# Altium footprint library Wei_PcbLib1.PcbLib: 49 footprints (part 2 of 4)
Each footprint in its own frame and in the unit in brackets; x right, y up, seen from the top. Pads: shape width x height; smd on the part's side, far side on the other; paste and mask are expansions set on the pad; w line width, h text height; cw(c..) or ccw(c..) is an arc to the next point about the centre after c.
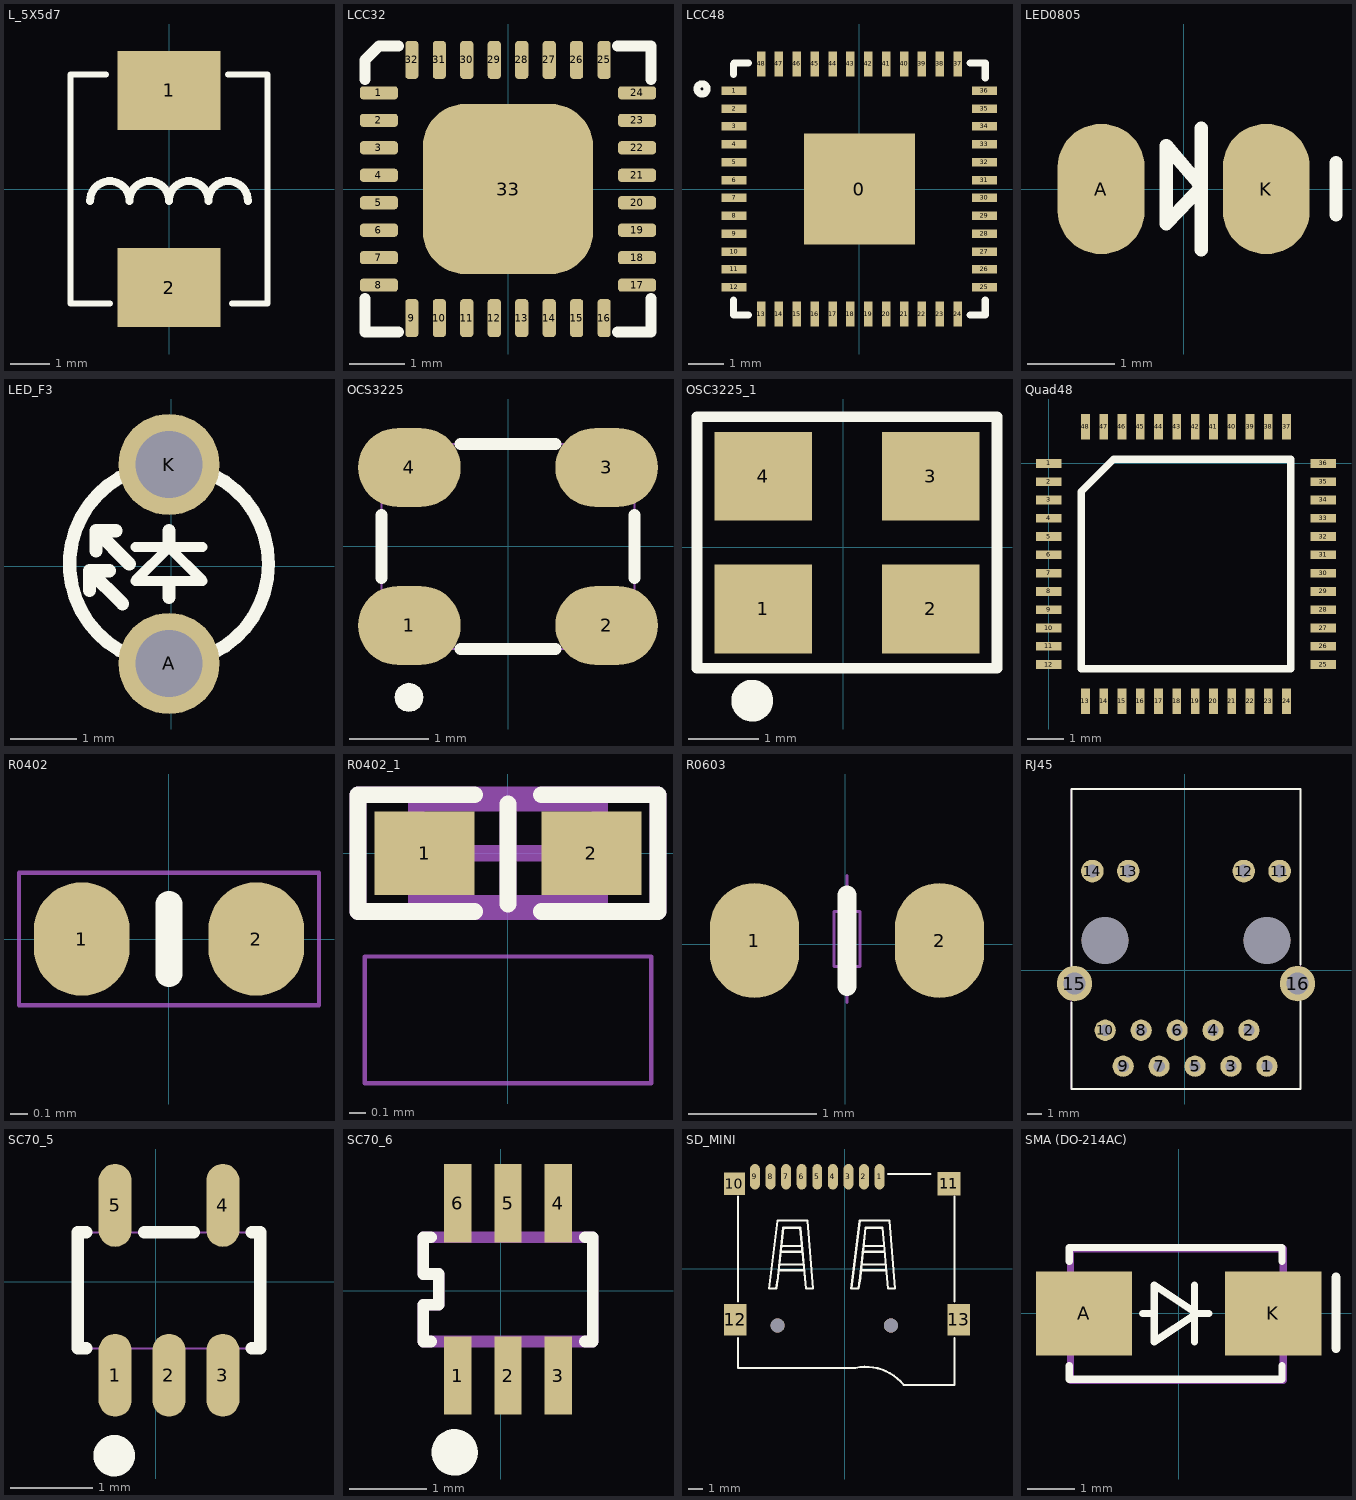
[diagram p1: the footprints below, top view; thin cyan lines are the x and y axes]

## L_5X5d7 [mm]
pads (2):
  rect 2.6x2 smd: 1(0,2.5) 2(0,-2.5)
Top Overlay:
  lines w0.152: -1.6,2.9 -2.5,2.9 -2.5,-2.9 -1.5,-2.9 ; 1.5,2.9 2.5,2.9 2.5,-2.9 1.6,-2.9
  lines w0.2: -2,-0.3 cw(c-1.5,-0.3) -1,-0.3 cw(c-0.5,-0.3) 0,-0.3 cw(c0.5,-0.3) 1,-0.3 cw(c1.5,-0.3) 2,-0.3

## LCC32 [mm]
pads (33):
  rrect50% 0.69x0.24 smd mask+0.05: 1(-2.35,1.75) 2(-2.35,1.25) 3(-2.35,0.75) 4(-2.35,0.25) 5(-2.35,-0.25) 6(-2.35,-0.75) 7(-2.35,-1.25) 8(-2.35,-1.75) 17(2.35,-1.75) 18(2.35,-1.25) 19(2.35,-0.75) 20(2.35,-0.25) 21(2.35,0.25) 22(2.35,0.75) 23(2.35,1.25) 24(2.35,1.75)
  rrect50% 0.24x0.69 smd mask+0.05: 9(-1.75,-2.35) 10(-1.25,-2.35) 11(-0.75,-2.35) 12(-0.25,-2.35) 13(0.25,-2.35) 14(0.75,-2.35) 15(1.25,-2.35) 16(1.75,-2.35) 25(1.75,2.35) 26(1.25,2.35) 27(0.75,2.35) 28(0.25,2.35) 29(-0.25,2.35) 30(-0.75,2.35) 31(-1.25,2.35) 32(-1.75,2.35)
  rrect50% 3.1x3.1 smd: 33(0,0)
Top Overlay:
  lines w0.2: -2.6,-1.99 -2.6,-2.6 -1.99,-2.6 ; -2.6,1.99 -2.6,2.35 -2.35,2.6 -1.99,2.6 ; 1.99,-2.6 2.6,-2.6 2.6,-1.99 ; 1.99,2.6 2.6,2.6 2.6,1.99

## LCC48 [mm]
pads (49):
  rect 3.1x3.1 smd: 0(0,0)
  rect 0.7x0.24 smd mask+0.05: 1(-3.5,2.75) 2(-3.5,2.25) 3(-3.5,1.75) 4(-3.5,1.25) 5(-3.5,0.75) 6(-3.5,0.25) 7(-3.5,-0.25) 8(-3.5,-0.75) 9(-3.5,-1.25) 10(-3.5,-1.75) 11(-3.5,-2.25) 12(-3.5,-2.75) 25(3.5,-2.75) 26(3.5,-2.25) 27(3.5,-1.75) 28(3.5,-1.25) 29(3.5,-0.75) 30(3.5,-0.25) 31(3.5,0.25) 32(3.5,0.75) 33(3.5,1.25) 34(3.5,1.75) 35(3.5,2.25) 36(3.5,2.75)
  rect 0.24x0.7 smd mask+0.05: 13(-2.75,-3.5) 14(-2.25,-3.5) 15(-1.75,-3.5) 16(-1.25,-3.5) 17(-0.75,-3.5) 18(-0.25,-3.5) 19(0.25,-3.5) 20(0.75,-3.5) 21(1.25,-3.5) 22(1.75,-3.5) 23(2.25,-3.5) 24(2.75,-3.5) 37(2.75,3.5) 38(2.25,3.5) 39(1.75,3.5) 40(1.25,3.5) 41(0.75,3.5) 42(0.25,3.5) 43(-0.25,3.5) 44(-0.75,3.5) 45(-1.25,3.5) 46(-1.75,3.5) 47(-2.25,3.5) 48(-2.75,3.5)
Top Overlay:
  circle w0.2: c-4.4,2.8 r0.141
  lines w0.2: -3.52,-3.1 -3.52,-3.52 -3.1,-3.52 ; -3.52,3.2 -3.52,3.5 -3.5,3.52 -3.1,3.52 ; 3.1,-3.52 3.52,-3.52 3.52,-3.1 ; 3.1,3.52 3.52,3.52 3.52,3.1

## LED0805 [mm]
pads (2):
  oval 1x1.5 smd: A(-0.949,0) K(0.949,0)
Top Overlay:
  lines w0.152: 0.2,-0.7 0.2,0.7 ; 1.751,-0.297 1.751,0.301 ; -0.2,-0.4 -0.2,0.5 0.203,0.025 -0.2,-0.4

## LED_F3 [mil]
pads (2):
  round 60 hole 40: A(-1.22,-57.72) K(-1.22,60.39)
Top Overlay:
  circle w7.87: c-1.22,1.34 r59.06
  lines w6: -21.22,11.34 18.78,11.34 ; -21.22,-8.66 18.78,-8.66 -1.22,11.34 -21.22,-8.66
  lines w7.87: -48.46,-14.41 -48.46,-2.6 ; -44.53,9.21 -44.53,21.02 ; -36.65,-2.6 -48.46,-2.6 ; -32.72,21.02 -44.53,21.02 ; -28.78,-22.28 -48.46,-2.6 ; -24.84,1.34 -44.53,21.02 ; -1.22,-18.35 -1.22,-10.47 ; -1.22,11.34 -1.22,21.02

## OCS3225 [mm]
pads (4):
  oval 1.3x1 smd: 1(-1.25,-1) 2(1.25,-1) 3(1.25,1) 4(-1.25,1)
Top Overlay:
  region: -1.071,-1.912 -1.085,-1.842 -1.125,-1.782 -1.184,-1.743 -1.254,-1.729 -1.324,-1.743 -1.344,-1.756 -1.384,-1.782 -1.423,-1.842 -1.437,-1.912 -1.423,-1.982 -1.384,-2.041 -1.344,-2.068 -1.324,-2.081 -1.254,-2.095 -1.184,-2.081 -1.125,-2.041 -1.085,-1.982
  lines w0.152: -1.6,-0.4 -1.6,0.4 ; -0.6,-1.3 0.6,-1.3 ; -0.6,1.3 0.6,1.3 ; 1.6,-0.4 1.6,0.4
Mechanical 8:
  lines w0.025: -0.2,1.3 1.6,1.3 1.6,-1.3 -1.6,-1.3 -1.6,1.3 -0.1,1.3

## OSC3225_1 [mil]
pads (4):
  rect 55x50 smd: 1(-44.96,-34.88) 2(49.44,-34.88) 3(49.44,39.92) 4(-44.96,39.92)
Top Overlay:
  circle w11.8: c-51.18,-86.61 r5.88
  lines w6: -82.35,73.42 -82.35,-68.38 86.84,-68.38 86.84,73.42 -80.46,73.42

## Quad48 [mm]
pads (48):
  rect 0.7x0.24 smd: 1(0,0) 2(0,-0.5) 3(0,-1) 4(0,-1.5) 5(0,-2) 6(0,-2.5) 7(0,-3) 8(0,-3.5) 9(0,-4) 10(0,-4.5) 11(0,-5) 12(0,-5.5) 25(7.5,-5.5) 26(7.5,-5) 27(7.5,-4.5) 28(7.5,-4) 29(7.5,-3.5) 30(7.5,-3) 31(7.5,-2.5) 32(7.5,-2) 33(7.5,-1.5) 34(7.5,-1) 35(7.5,-0.5) 36(7.5,0)
  rect 0.24x0.7 smd: 13(1,-6.5) 14(1.5,-6.5) 15(2,-6.5) 16(2.5,-6.5) 17(3,-6.5) 18(3.5,-6.5) 19(4,-6.5) 20(4.5,-6.5) 21(5,-6.5) 22(5.5,-6.5) 23(6,-6.5) 24(6.5,-6.5) 37(6.5,1) 38(6,1) 39(5.5,1) 40(5,1) 41(4.5,1) 42(4,1) 43(3.5,1) 44(3,1) 45(2.5,1) 46(2,1) 47(1.5,1) 48(1,1)
Top Overlay:
  lines w0.2: 0.885,-5.615 0.885,-0.77 1.77,0.115 6.615,0.115 6.615,-5.615 0.885,-5.615

## R0402 [mm]
pads (2):
  oval 0.55x0.65 smd: 1(-0.5,0) 2(0.5,0)
Top Overlay:
  lines w0.152: 0,-0.2 0,0.2
Mechanical 8:
  lines w0.025: -0.86,-0.38 -0.86,0.38 0.86,0.38 0.86,-0.38 -0.86,-0.38

## R0402_1 [mm] "Chip Capacitor, Body 1.0x0.5mm, IPC High Density"
height 1.3
pads (2):
  rect 0.6x0.5 smd mask+0.05: 1(-0.5,0) 2(0.5,0)
Top Overlay:
  lines w0.1: -0.2,-0.35 -0.9,-0.35 -0.9,0.35 -0.875,0.35 -0.2,0.35 ; 0,-0.305 0,0.295 ; 0.2,-0.35 0.9,-0.35 0.9,0.35 0.2,0.35
Mechanical 8:
  lines w0.025: -0.86,-1.38 0.86,-1.38 0.86,-0.62 -0.86,-0.62 -0.86,-1.38
Mechanical 13:
  lines w0.1: -0.55,-0.3 0.55,-0.3 0.55,0.3 -0.55,0.3 -0.55,-0.3
Mechanical 15:
  lines w0.1: -0.3,0 0.3,0 ; 0,-0.3 0,0.3 ; -0.9,-0.35 -0.9,0.35 0.9,0.35 0.9,-0.35 -0.9,-0.35
3D body: height 1.3, standoff 0, extent -0.55,-0.3 0.55,0.3

## R0603 [mm]
pads (2):
  oval 0.7x0.9 smd: 1(-0.709,0.03) 2(0.739,0.03)
Top Overlay:
  lines w0.152: 0.015,-0.326 0.015,0.386
Mechanical 8:
  lines w0.025: 0.015,-0.453 0.015,-0.173 ; 0.015,0.259 0.015,0.538 ; -0.087,-0.173 0.117,-0.173 0.117,0.259 -0.087,0.259 -0.087,-0.173

## RJ45 [mm]
pads (18):
  round 1.5 / inner round 1.524 / far side round 1.5 hole 0.8: 1(5.82,-6.79) 2(4.55,-4.25) 3(3.28,-6.79) 4(2.01,-4.25) 5(0.74,-6.79) 6(-0.53,-4.25) 7(-1.8,-6.79) 8(-3.07,-4.25) 9(-4.34,-6.79) 10(-5.61,-4.25)
  round 1.6 / inner round 1.524 / far side round 1.6 hole 0.9: 11(6.72,7) 12(4.18,7) 13(-3.98,7) 14(-6.52,7)
  round 2.5 / inner round 1.524 / far side round 2.5 hole 1.57: 15(-7.78,-0.95) 16(7.98,-0.95)
  round 3.3 / inner round 1.524 / far side round 3.3 hole 3.3: ""(-5.62,2.1) ""(5.82,2.1)
Top Overlay:
  lines w0.152: -8,-2.3 -8,-8.4 8.2,-8.4 8.2,-2.2 ; -8,0.3 -8,12.8 8.2,12.8 8.2,0.4
Mechanical 8:
  lines w0.025: -8,-8.4 8.2,-8.4 8.2,12.8 -8,12.8 -8,-8.4

## SC70_5 [mm]
pads (5):
  oval 0.4x1 smd: 1(-0.488,-1.128) 2(0.162,-1.128) 3(0.812,-1.128) 4(0.812,0.921) 5(-0.488,0.921)
Top Overlay:
  circle w0.3: c-0.5,-2.1 r0.1
  lines w0.152: -0.838,-0.804 -0.938,-0.804 -0.938,0.596 -0.838,0.596 ; -0.138,0.596 0.462,0.596 ; 1.162,-0.804 1.262,-0.804 1.262,0.596 1.162,0.596
Mechanical 8:
  lines w0.025: -0.938,-0.804 1.262,-0.804 1.262,0.596 -0.938,0.596 -0.938,-0.804

## SC70_6 [mil]
pads (6):
  rect 14x40 smd: 1(-21.98,-43.44) 2(3.62,-43.44) 3(29.22,-43.44) 4(29.22,44.7) 5(3.62,44.7) 6(-21.98,44.7)
Top Overlay:
  circle w11.8: c-23.62,-82.68 r5.96
  lines w6: -35.78,-25.97 -39.68,-25.97 -39.68,-7.27 -31.78,-7.27 -31.78,8.53 -39.68,8.53 -39.68,27.23 -35.78,27.23 ; 43.02,-25.97 46.92,-25.97 46.92,27.23 43.02,27.23
Mechanical 8:
  lines w6: -39.68,-25.97 -39.68,-7.27 -31.78,-7.27 -31.78,8.53 -39.68,8.53 -39.68,27.23 46.92,27.23 46.92,-25.97 -39.68,-25.97

## SD_MINI [mm]
pads (15):
  oval 0.7x1.8 smd: 1(2.45,6.5) 2(1.35,6.5) 3(0.25,6.5) 4(-0.85,6.5) 5(-1.95,6.5) 6(-3.05,6.5) 7(-4.15,6.5) 8(-5.25,6.5) 9(-6.35,6.5)
  rect 1.5x1.6 smd: 10(-7.8,6)
  rect 1.65x1.65 smd: 11(7.35,6)
  rect 1.6x2.2 smd: 12(-7.75,-3.6) 13(8.05,-3.6)
  round 1 / inner round 1.524 / far side round 1 hole 1: ""(-4.75,-4) ""(3.25,-4)
Top Overlay:
  lines w0.152: -7.55,-4.9 -7.55,-7 0.75,-7 cw(c1.478,-10.354) 4.15,-8.2 7.75,-8.2 7.75,-4.9 ; -7.55,-2.3 -7.55,5.1 ; -4.75,-0.9 -4.35,2.9 -3.15,2.9 -2.75,-1.4 -2.25,-1.4 -2.65,3.4 -4.75,3.4 -5.35,-1.4 -4.85,-1.4 -4.75,-0.8 ; -4.65,-0.1 -2.85,-0.1 ; -4.55,0.3 -2.95,0.3 ; -4.55,1.2 -3.05,1.2 ; -4.45,1.6 -3.05,1.6 ; 1.05,-0.9 1.45,2.9 2.65,2.9 3.05,-1.4 3.55,-1.4 3.15,3.4 1.05,3.4 0.45,-1.4 0.95,-1.4 1.05,-0.8 ; 1.15,-0.1 2.95,-0.1 ; 1.25,0.3 2.85,0.3 ; 1.25,1.2 2.75,1.2 ; 1.35,1.6 2.75,1.6 ; 3.05,6.7 6.05,6.7 ; 7.75,-2.3 7.75,5.1
Mechanical 6:
  text "13" at 7.237,-3.6 h0.51
  text "12" at -8.563,-3.6 h0.51
  text "11" at 6.943,6 h0.51
  text "10" at -8.613,6 h0.51
  text "9" at -6.756,6.5 h0.51
  text "8" at -5.656,6.5 h0.51
  text "7" at -4.556,6.5 h0.51
  text "6" at -3.457,6.5 h0.51
  text "5" at -2.356,6.5 h0.51
  text "4" at -1.256,6.5 h0.51
  text "3" at -0.156,6.5 h0.51
  text "2" at 0.944,6.5 h0.51
  text "1" at 2.044,6.5 h0.51
Mechanical 8:
  text "J*" at 1.25,7.7 h0.64

## SMA (DO-214AC) [mil]
pads (2):
  rect 80x70 smd: A(-78.74,0) K(78.74,0)
Top Overlay:
  lines w6: -91.14,-43.3 -91.14,-54.9 86.06,-54.9 86.06,-43.3 ; -91.14,43.3 -91.14,54.9 86.06,54.9 86.06,43.3 ; -30.14,0 -22.24,0 ; 13.26,-23.6 13.26,23.6 ; 13.26,0 25.06,0 ; -20.24,-23.6 15.16,0 -20.24,23.6 -20.24,-23.6
  lines w7.87: 130.98,-29.13 130.98,29.92
Mechanical 8:
  lines w6: -90.14,-55.9 -90.14,53.9 87.06,53.9 87.06,-55.9 -90.14,-55.9